# Altium footprint library PCB - CONNECTOR - WURTH - WURTH 74984104401.PcbLib: 1 footprints
Each footprint in its own frame and in the unit in brackets; x right, y up, seen from the top. Pads: shape width x height; smd on the part's side, far side on the other; paste and mask are expansions set on the pad; w line width, h text height; cw(c..) or ccw(c..) is an arc to the next point about the centre after c.
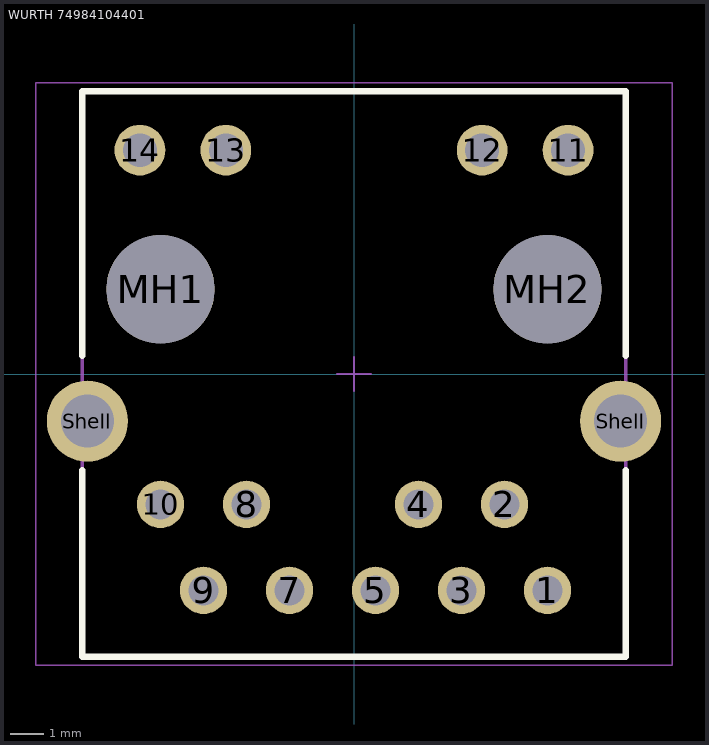
[diagram p0: the footprint, top view; thin cyan lines are the x and y axes]

## WURTH 74984104401 [mm] "LAN Transformer Through Hole, body 16.05x16.7mm"
height 16.9
pads (17):
  round 1.4 hole 0.89 paste-2222: 1(5.715,-6.39) 2(4.445,-3.85) 3(3.175,-6.39) 4(1.905,-3.85) 5(0.635,-6.39) 7(-1.905,-6.39) 8(-3.175,-3.85) 9(-4.445,-6.39) 10(-5.715,-3.85)
  round 1.5 hole 1 paste-2222: 11(6.325,6.61) 12(3.785,6.61) 13(-3.785,6.61) 14(-6.325,6.61)
  round 3.2 hole 3.2 unplated paste-2222: MH1(-5.715,2.5) MH2(5.715,2.5)
  round 2.4 hole 1.57 paste-2222: Shell(-7.875,-1.39) Shell(7.875,-1.39)
Top Overlay:
  lines w0.2: -8.025,-2.85 -8.025,-8.35 8.025,-8.35 8.025,-2.85 ; -8.025,0.55 -8.025,8.35 8.025,8.35 8.025,0.55
Top Component Outline:
  lines w0.1: -8.025,-8.35 -8.025,8.35 8.025,8.35 8.025,-8.35 -8.025,-8.35
Top Courtyard:
  lines w0.05: -9.398,-8.6 -9.398,8.6 9.398,8.6 9.398,-8.6 -9.398,-8.6
Top Component Center:
  lines w0.05: -0.5,0 0.5,0 ; 0,-0.5 0,0.5
3D body "Wurth 74984104401.step": height 16.6, standoff -2.5, extent -8.221,-8.4 8.221,8.3